# Altium schematic symbol library NEC_Control.SchLib: 1 symbol
Pins are listed as number, name and electrical type; pins without a type are passive.

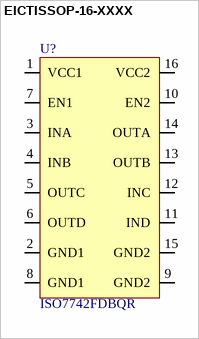
[diagram p0: symbol EICTISSOP-16-XXXX]

## EICTISSOP-16-XXXX
designator U?, comment value ISO7742FDBQR  (hidden comment: DGTL ISO 2500VRMS 4CH GP 16SSOP)
Manufacturer: Texas Instruments; Vendor Part Number: 296-49659-1-ND; Internal Part Number: EICTISSOP-16-XXXX; Vendor Name: Digi-Key; 3rd Auxiliary Field: ROHS3 Compliant; Component Height (mm): 1.75mm; Temp Co: -55°C ~ 125°C; 2nd Auxiliary Field: 100Mbps; 1st Auxiliary Field: 2.25V ~ 5.5V; Part Type: DGTL ISO 2500VRMS 4CH GP 16SSOP; Manufacturer Part Number: ISO7742FDBQR; 4th Auxiliary Field: *
footprint SOP635P600X175-16N (SOP, 16-Leads, Body 4.91x3.90mm, Pitch 0.64mm, IPC Medium Density)
pins: 1 VCC1, 2 GND1, 3 INA, 4 INB, 5 OUTC, 6 OUTD, 7 EN1, 8 GND1, 9 GND2, 10 EN2, 11 IND, 12 INC, 13 OUTB, 14 OUTA, 15 GND2, 16 VCC2